# Altium schematic symbol library Switch.SchLib: 71 symbols
Pins are listed as number, name and electrical type; pins without a type are passive.

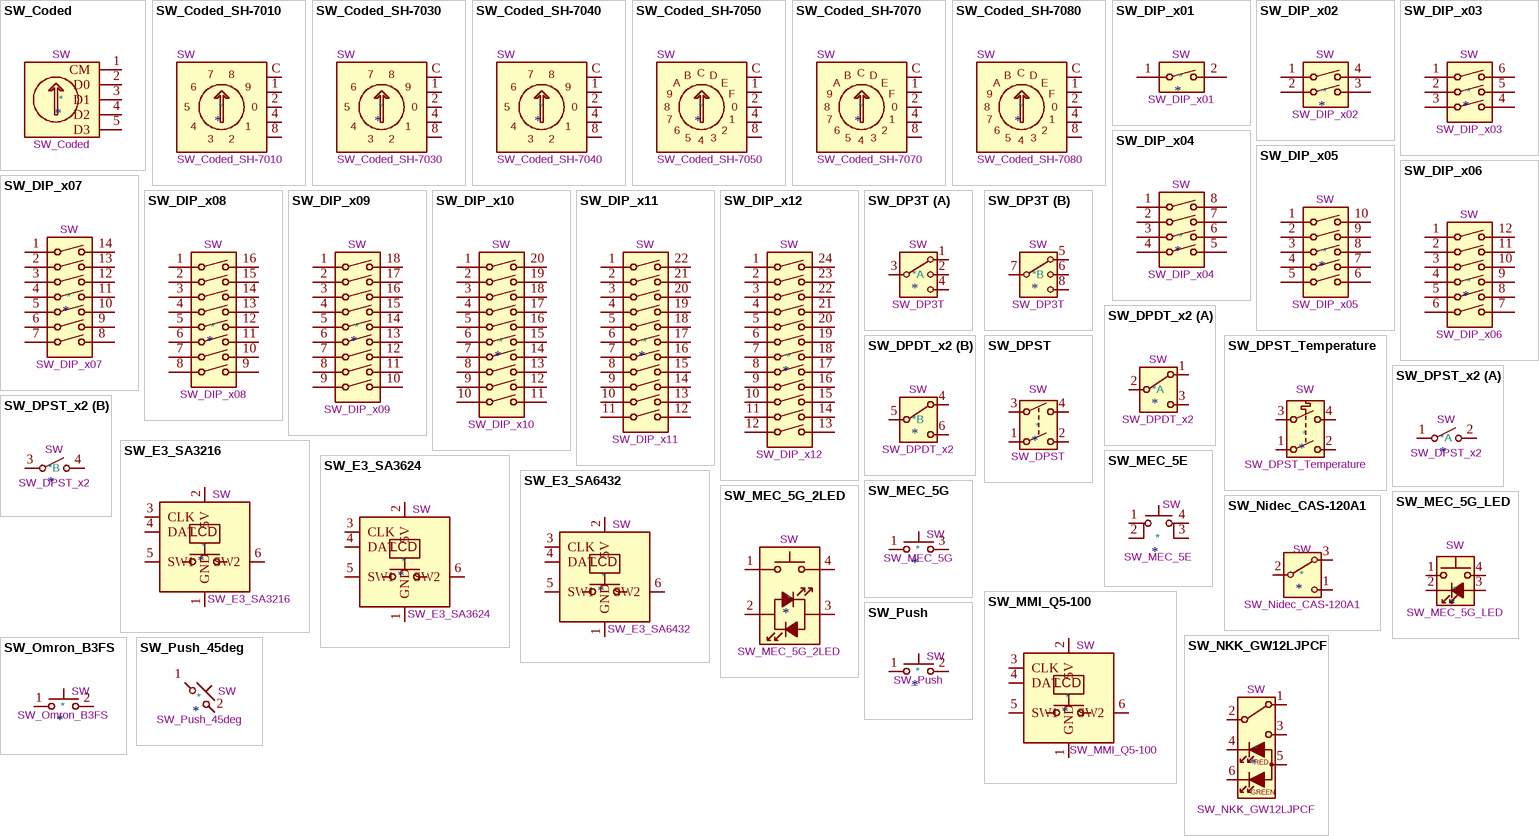
[diagram p0: symbols SW_Coded to SW_Push_45deg]

## SW_Coded
designator *  value SW_Coded  Reference: SW
ki_keywords: rotary hex; ki_description: Rotary switch, 4-bit encoding; Datasheet: ~
pins: 1 CM, 2 D0, 3 D1, 4 D2, 5 D3

## SW_Coded_SH-7010
designator *  value SW_Coded_SH-7010  Reference: SW
ki_keywords: rotary bcd Real; ki_description: Rotary switch, 4-bit encoding, 10 positions, Real code; ki_fp_filters: Nidec*Copal*SH*7010*; Datasheet: https://www.nidec-copal-electronics.com/e/catalog/switch/sh-7000.pdf
pins: 1, 2, 4, 8, C
text: 7; 6; 9; 5; 0; 3

## SW_Coded_SH-7030
designator *  value SW_Coded_SH-7030  Reference: SW
ki_keywords: rotary bcd Complementary; ki_description: Rotary switch, 4-bit encoding, 10 positions, Complementary code; ki_fp_filters: Nidec*Copal*SH*7010*; Datasheet: https://www.nidec-copal-electronics.com/e/catalog/switch/sh-7000.pdf
pins: 1, 2, 4, 8, C
text: 7; 6; 9; 5; 0; 3

## SW_Coded_SH-7040
designator *  value SW_Coded_SH-7040  Reference: SW
ki_keywords: rotary bcd Gray; ki_description: Rotary switch, 4-bit encoding, 10 positions, Gray code; ki_fp_filters: Nidec*Copal*SH*7040*; Footprint: Button_Switch_SMD:Nidec_Copal_SH-7040B; Datasheet: https://www.nidec-copal-electronics.com/e/catalog/switch/sh-7000.pdf
pins: 1, 2, 4, 8, C
text: 7; 6; 9; 5; 0; 3

## SW_Coded_SH-7050
designator *  value SW_Coded_SH-7050  Reference: SW
ki_keywords: rotary hex Real; ki_description: Rotary switch, 4-bit encoding, 16 positions, Real code; ki_fp_filters: Nidec*Copal*SH*7010*; Datasheet: https://www.nidec-copal-electronics.com/e/catalog/switch/sh-7000.pdf
pins: 1, 2, 4, 8, C
text: B; D; A; E; 9; F; 0; 7; 6; 5; 3

## SW_Coded_SH-7070
designator *  value SW_Coded_SH-7070  Reference: SW
ki_keywords: rotary hex Complementary; ki_description: Rotary switch, 4-bit encoding, 16 positions, Complementary code; ki_fp_filters: Nidec*Copal*SH*7010*; Datasheet: https://www.nidec-copal-electronics.com/e/catalog/switch/sh-7000.pdf
pins: 1, 2, 4, 8, C
text: B; D; A; E; 9; F; 0; 7; 6; 5; 3

## SW_Coded_SH-7080
designator *  value SW_Coded_SH-7080  Reference: SW
ki_keywords: rotary hex Gray; ki_description: Rotary switch, 4-bit encoding, 16 positions, Gray code; ki_fp_filters: Nidec*Copal*SH*7040*; Footprint: Button_Switch_SMD:Nidec_Copal_SH-7040B; Datasheet: https://www.nidec-copal-electronics.com/e/catalog/switch/sh-7000.pdf
pins: 1, 2, 4, 8, C
text: B; D; A; E; 9; F; 0; 7; 6; 5; 3

## SW_DIP_x01
designator *  value SW_DIP_x01  Reference: SW
ki_keywords: dip switch; ki_description: 1x DIP Switch, Single Pole Single Throw (SPST) switch, small symbol; ki_fp_filters: SW?DIP?x1*; Datasheet: ~
pins: 1, 2

## SW_DIP_x02
designator *  value SW_DIP_x02  Reference: SW
ki_keywords: dip switch; ki_description: 2x DIP Switch, Single Pole Single Throw (SPST) switch, small symbol; ki_fp_filters: SW?DIP?x2*; Datasheet: ~
pins: 1, 2, 3, 4

## SW_DIP_x03
designator *  value SW_DIP_x03  Reference: SW
ki_keywords: dip switch; ki_description: 3x DIP Switch, Single Pole Single Throw (SPST) switch, small symbol; ki_fp_filters: SW?DIP?x3*; Datasheet: ~
pins: 1, 2, 3, 4, 5, 6

## SW_DIP_x04
designator *  value SW_DIP_x04  Reference: SW
ki_keywords: dip switch; ki_description: 4x DIP Switch, Single Pole Single Throw (SPST) switch, small symbol; ki_fp_filters: SW?DIP?x4*; Datasheet: ~
pins: 1, 2, 3, 4, 5, 6, 7, 8

## SW_DIP_x05
designator *  value SW_DIP_x05  Reference: SW
ki_keywords: dip switch; ki_description: 5x DIP Switch, Single Pole Single Throw (SPST) switch, small symbol; ki_fp_filters: SW?DIP?x5*; Datasheet: ~
pins: 1, 2, 3, 4, 5, 6, 7, 8, 9, 10

## SW_DIP_x06
designator *  value SW_DIP_x06  Reference: SW
ki_keywords: dip switch; ki_description: 6x DIP Switch, Single Pole Single Throw (SPST) switch, small symbol; ki_fp_filters: SW?DIP?x6*; Datasheet: ~
pins: 1, 2, 3, 4, 5, 6, 7, 8, 9, 10, 11, 12

## SW_DIP_x07
designator *  value SW_DIP_x07  Reference: SW
ki_keywords: dip switch; ki_description: 7x DIP Switch, Single Pole Single Throw (SPST) switch, small symbol; ki_fp_filters: SW?DIP?x7*; Datasheet: ~
pins: 1, 2, 3, 4, 5, 6, 7, 8, 9, 10, 11, 12, 13, 14

## SW_DIP_x08
designator *  value SW_DIP_x08  Reference: SW
ki_keywords: dip switch; ki_description: 8x DIP Switch, Single Pole Single Throw (SPST) switch, small symbol; ki_fp_filters: SW?DIP?x8*; Datasheet: ~
pins: 1, 2, 3, 4, 5, 6, 7, 8, 9, 10, 11, 12, 13, 14, 15, 16

## SW_DIP_x09
designator *  value SW_DIP_x09  Reference: SW
ki_keywords: dip switch; ki_description: 9x DIP Switch, Single Pole Single Throw (SPST) switch, small symbol; ki_fp_filters: SW?DIP?x9*; Datasheet: ~
pins: 1, 2, 3, 4, 5, 6, 7, 8, 9, 10, 11, 12, 13, 14, 15, 16, 17, 18

## SW_DIP_x10
designator *  value SW_DIP_x10  Reference: SW
ki_keywords: dip switch; ki_description: 10x DIP Switch, Single Pole Single Throw (SPST) switch, small symbol; ki_fp_filters: SW?DIP?x10*; Datasheet: ~
pins: 1, 2, 3, 4, 5, 6, 7, 8, 9, 10, 11, 12, 13, 14, 15, 16, 17, 18, 19, 20

## SW_DIP_x11
designator *  value SW_DIP_x11  Reference: SW
ki_keywords: dip switch; ki_description: 11x DIP Switch, Single Pole Single Throw (SPST) switch, small symbol; ki_fp_filters: SW?DIP?x11*; Datasheet: ~
pins: 1, 2, 3, 4, 5, 6, 7, 8, 9, 10, 11, 12, 13, 14, 15, 16, 17, 18, 19, 20, 21, 22

## SW_DIP_x12
designator *  value SW_DIP_x12  Reference: SW
ki_keywords: dip switch; ki_description: 12x DIP Switch, Single Pole Single Throw (SPST) switch, small symbol; ki_fp_filters: SW?DIP?x12*; Datasheet: ~
pins: 1, 2, 3, 4, 5, 6, 7, 8, 9, 10, 11, 12, 13, 14, 15, 16, 17, 18, 19, 20, 21, 22, 23, 24

## SW_DP3T
designator *  value SW_DP3T  Reference: SW
ki_keywords: switch dp3t ON-ON-ON; ki_description: Switch, three position, dual pole triple throw, 3 position switch, SP3T; ki_fp_filters: SW* DP3T*; Datasheet: ~
part A pins: 1, 2, 3, 4
part B pins: 5, 6, 7, 8

## SW_DPDT_x2
designator *  value SW_DPDT_x2  Reference: SW
ki_keywords: switch dual-pole double-throw DPDT spdt ON-ON; ki_description: Switch, dual pole double throw, separate symbols; ki_fp_filters: SW*DPDT*; Datasheet: ~
part A pins: 1 A, 2 B, 3 C
part B pins: 4 A, 5 B, 6 C

## SW_DPST
designator *  value SW_DPST  Reference: SW
ki_keywords: switch dual double-pole single-throw OFF-ON; ki_description: Double Pole Single Throw (DPST) Switch; Datasheet: ~
pins: 1, 2, 3, 4

## SW_DPST_Temperature
designator *  value SW_DPST_Temperature  Reference: SW
ki_keywords: temperature switch dual double-pole single-throw OFF-ON; ki_description: Double Pole Single Throw (DPST) Switch, temperature dependent; Datasheet: ~
pins: 1, 2, 3, 4

## SW_DPST_x2
designator *  value SW_DPST_x2  Reference: SW
ki_keywords: switch lever; ki_description: Single Pole Single Throw (SPST) switch, separate symbol; Datasheet: ~
part A pins: 1 A, 2 B
part B pins: 3 A, 4 B

## SW_E3_SA3216
designator *  value SW_E3_SA3216  Reference: SW
ki_keywords: switch normally-open pushbutton push-button LCD; ki_description: Push button switch with LCD screen; ki_fp_filters: SW?PUSH?LCD?E3?SAxxxx*; Datasheet: http://www.e3-keys.com/files/SA%20Technical%20Datasheet%20v2.0.pdf
pins: 1 GND, 2 5V, 3 CLK, 4 DAT, 5 SW1, 6 SW2
text: LCD

## SW_E3_SA3624
designator *  value SW_E3_SA3624  Reference: SW
ki_keywords: switch normally-open pushbutton push-button LCD; ki_description: Push button switch with LCD screen; ki_fp_filters: SW?PUSH?LCD?E3?SAxxxx*; Datasheet: http://www.e3-keys.com/files/SA%20Technical%20Datasheet%20v2.0.pdf
pins: 1 GND, 2 5V, 3 CLK, 4 DAT, 5 SW1, 6 SW2
text: LCD

## SW_E3_SA6432
designator *  value SW_E3_SA6432  Reference: SW
ki_keywords: switch normally-open pushbutton push-button LCD; ki_description: Push button switch with LCD screen; ki_fp_filters: SW?PUSH?LCD?E3?SAxxxx*; Datasheet: http://www.e3-keys.com/files/SA%20Technical%20Datasheet%20v2.0.pdf
pins: 1 GND, 2 5V, 3 CLK, 4 DAT, 5 SW1, 6 SW2
text: LCD

## SW_MEC_5E
designator *  value SW_MEC_5E  Reference: SW
ki_keywords: switch normally-open pushbutton push-button; ki_description: MEC 5E single pole normally-open tactile switch; ki_fp_filters: SW*MEC*5G*; Datasheet: http://www.apem.com/int/index.php?controller=attachment&id_attachment=1371
pins: 1, 2, 3 K, 4 A

## SW_MEC_5G
designator *  value SW_MEC_5G  Reference: SW
ki_keywords: switch normally-open pushbutton push-button; ki_description: MEC 5G single pole normally-open tactile switch; ki_fp_filters: SW*MEC*5G*; Datasheet: http://www.apem.com/int/index.php?controller=attachment&id_attachment=488
pins: 1 A, 2 A hidden, 3 B, 4 B hidden

## SW_MEC_5G_2LED
designator *  value SW_MEC_5G_2LED  Reference: SW
ki_keywords: switch normally-open pushbutton push-button LED; ki_description: MEC 5G single pole normally-open illuminated tactile switch with two LEDs; ki_fp_filters: SW*MEC*5G*; Datasheet: http://www.apem.com/int/index.php?controller=attachment&id_attachment=488
pins: 1, 2, 3 K, 4 A

## SW_MEC_5G_LED
designator *  value SW_MEC_5G_LED  Reference: SW
ki_keywords: switch normally-open pushbutton push-button LED; ki_description: MEC 5G single pole normally-open illuminated tactile switch; ki_fp_filters: SW*MEC*5G*; Datasheet: http://www.apem.com/int/index.php?controller=attachment&id_attachment=488
pins: 1, 2, 3 K, 4 A

## SW_MMI_Q5-100
designator *  value SW_MMI_Q5-100  Reference: SW
ki_keywords: switch normally-open pushbutton push-button LCD; ki_description: Push button switch with LCD screen; ki_fp_filters: SW?PUSH?LCD?E3?SAxxxx*; Datasheet: http://latest.ledswitches.co.uk/media/pdf/Q5-PCB-V1-withQ5data.pdf
pins: 1 GND, 2 5V, 3 CLK, 4 DAT, 5 SW1, 6 SW2
text: LCD

## SW_Nidec_CAS-120A1
designator *  value SW_Nidec_CAS-120A1  Reference: SW
ki_keywords: switch single-pole double-throw spdt ON-ON; ki_description: Switch, single pole double throw; ki_fp_filters: *Nidec?Copal?CAS?120A*; Footprint: Button_Switch_SMD:Nidec_Copal_CAS-120A; Datasheet: https://www.nidec-components.com/e/catalog/switch/cas.pdf
pins: 1 C, 2 B, 3 A

## SW_NKK_GW12LJPCF
designator *  value SW_NKK_GW12LJPCF  Reference: SW
ki_keywords: switch single-pole double-throw spdt ON-ON illuminated red green; ki_description: Switch, single pole double throw, illuminated paddle, red and green LEDs; ki_fp_filters: SW*NKK*GW12LJP*; Footprint: Button_Switch_THT:SW_NKK_GW12LJP; Datasheet: http://www.nkkswitches.com/pdf/gwillum.pdf
pins: 1 A, 2 B, 3 C, 4 KR, 5 A, 6 KG
text: RED; GREEN

## SW_Omron_B3FS
designator *  value SW_Omron_B3FS  Reference: SW
ki_keywords: switch normally-open pushbutton push-button; ki_description: Omron B3FS 6x6mm single pole normally-open tactile switch; ki_fp_filters: SW*Omron*B3FS*; Datasheet: https://omronfs.omron.com/en_US/ecb/products/pdf/en-b3fs.pdf
pins: 1, 2

## SW_Push
designator *  value SW_Push  Reference: SW
ki_keywords: switch normally-open pushbutton push-button; ki_description: Push button switch, generic, two pins; Datasheet: ~
pins: 1, 2

## SW_Push_45deg
designator *  value SW_Push_45deg  Reference: SW
ki_keywords: switch normally-open pushbutton push-button; ki_description: Push button switch, normally open, two pins, 45° tilted; Datasheet: ~
pins: 1, 2

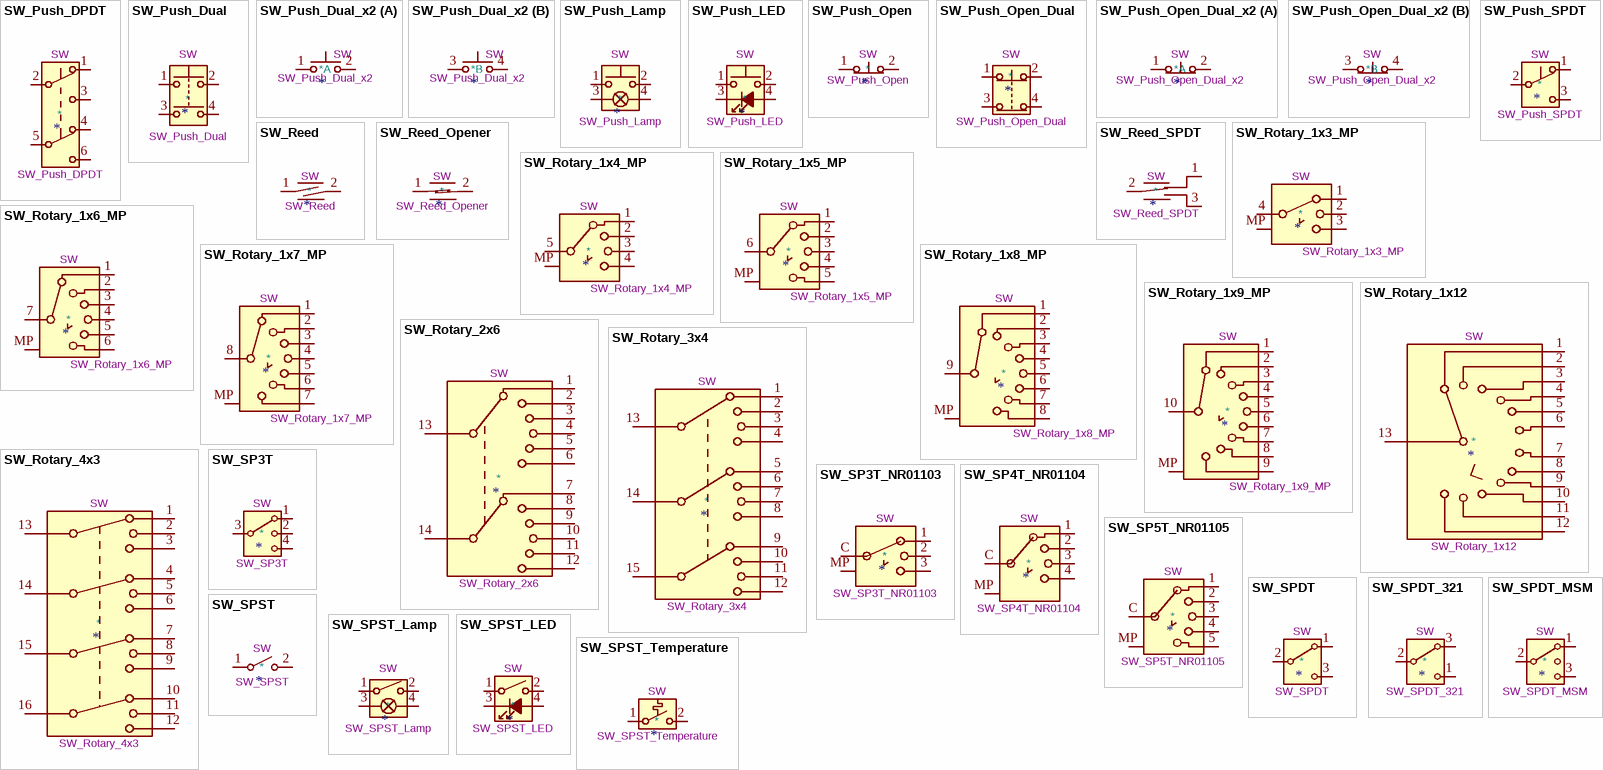
[diagram p1: symbols SW_Push_DPDT to SW_SPST_Temperature]

## SW_Push_DPDT
designator *  value SW_Push_DPDT  Reference: SW
ki_keywords: switch dual-pole double-throw spdt ON-ON; ki_description: Momentary Switch, dual pole double throw; Datasheet: ~
pins: 1 A, 2 B, 3 C, 4 A, 5 B, 6 C

## SW_Push_Dual
designator *  value SW_Push_Dual  Reference: SW
ki_keywords: switch normally-open pushbutton push-button; ki_description: Push button switch, generic, symbol, four pins; Datasheet: ~
pins: 1, 2, 3, 4

## SW_Push_Dual_x2
designator *  value SW_Push_Dual_x2  Reference: SW
ki_keywords: switch normally-open pushbutton push-button; ki_description: Push button switch, generic, separate symbols, four pins; Datasheet: ~
part A pins: 1 C, 2 D
part B pins: 3 C, 4 D

## SW_Push_Lamp
designator *  value SW_Push_Lamp  Reference: SW
ki_keywords: switch normally-open pushbutton push-button Lamp; ki_description: Push button switch with Signal Lamp, generic; Datasheet: ~
pins: 1, 2, 3 L, 4 L

## SW_Push_LED
designator *  value SW_Push_LED  Reference: SW
ki_keywords: switch normally-open pushbutton push-button LED; ki_description: Push button switch with LED, generic; Datasheet: ~
pins: 1, 2, 3 K, 4 A

## SW_Push_Open
designator *  value SW_Push_Open  Reference: SW
ki_keywords: switch normally-closed pushbutton push-button; ki_description: Push button switch, push-to-open, generic, two pins; Datasheet: ~
pins: 1 A, 2 B

## SW_Push_Open_Dual
designator *  value SW_Push_Open_Dual  Reference: SW
ki_keywords: switch normally-closed pushbutton push-button; ki_description: Push button switch, normally closed, generic, four pins; Datasheet: ~
pins: 1, 2, 3, 4

## SW_Push_Open_Dual_x2
designator *  value SW_Push_Open_Dual_x2  Reference: SW
ki_keywords: switch normally-closed pushbutton push-button; ki_description: Push button switch, push-to-open, generic, two pins; Datasheet: ~
part A pins: 1, 2
part B pins: 3 1, 4 2

## SW_Push_SPDT
designator *  value SW_Push_SPDT  Reference: SW
ki_keywords: switch single-pole double-throw spdt ON-ON; ki_description: Momentary Switch, single pole double throw; Datasheet: ~
pins: 1 A, 2 B, 3 C

## SW_Reed
designator *  value SW_Reed  Reference: SW
ki_keywords: reed magnetic switch; ki_description: reed switch; Datasheet: ~
pins: 1, 2

## SW_Reed_Opener
designator *  value SW_Reed_Opener  Reference: SW
ki_keywords: reed magnetic switch; ki_description: reed switch, default-closed; Datasheet: ~
pins: 1, 2

## SW_Reed_SPDT
designator *  value SW_Reed_SPDT  Reference: SW
ki_keywords: reed magnetic switch SPDT; ki_description: SPDT reed switch; Datasheet: ~
pins: 1, 2, 3

## SW_Rotary_1x3_MP
designator *  value SW_Rotary_1x3_MP  Reference: SW
ki_keywords: Rotary switch 1x3 SP3T; ki_description: Rotary switch 1x3, SP3T with mount point; Datasheet: ~
pins: 1, 2, 3, 4, MP

## SW_Rotary_1x4_MP
designator *  value SW_Rotary_1x4_MP  Reference: SW
ki_keywords: Rotary switch 1x4 SP4T; ki_description: Rotary switch 1x4, SP4T with mount point; Datasheet: ~
pins: 1, 2, 3, 4, 5, MP

## SW_Rotary_1x5_MP
designator *  value SW_Rotary_1x5_MP  Reference: SW
ki_keywords: Rotary switch 1x5 SP5T; ki_description: Rotary switch 1x5, SP5T with mount point; Datasheet: ~
pins: 1, 2, 3, 4, 5, 6, MP

## SW_Rotary_1x6_MP
designator *  value SW_Rotary_1x6_MP  Reference: SW
ki_keywords: Rotary switch 1x6 SP6T; ki_description: Rotary switch 1x6, SP6T with mount point; Datasheet: ~
pins: 1, 2, 3, 4, 5, 6, 7, MP

## SW_Rotary_1x7_MP
designator *  value SW_Rotary_1x7_MP  Reference: SW
ki_keywords: Rotary switch 1x7 SP7T; ki_description: Rotary switch 1x7, SP7T with mount point; Datasheet: ~
pins: 1, 2, 3, 4, 5, 6, 7, 8, MP

## SW_Rotary_1x8_MP
designator *  value SW_Rotary_1x8_MP  Reference: SW
ki_keywords: Rotary switch 1x8 SP8T; ki_description: Rotary switch 1x8, SP8T with mount point; Datasheet: ~
pins: 1, 2, 3, 4, 5, 6, 7, 8, 9, MP

## SW_Rotary_1x9_MP
designator *  value SW_Rotary_1x9_MP  Reference: SW
ki_keywords: Rotary switch 1x8 SP8T; ki_description: Rotary switch 1x8, SP8T with mount point; Datasheet: ~
pins: 1, 2, 3, 4, 5, 6, 7, 8, 9, 10, MP

## SW_Rotary_1x12
designator *  value SW_Rotary_1x12  Reference: SW
ki_keywords: rotary switch 1x12; ki_description: rotary switch with 12 positions; Datasheet: http://cdn-reichelt.de/documents/datenblatt/C200/DS-Serie%23LOR.pdf
pins: 1, 2, 3, 4, 5, 6, 7, 8, 9, 10, 11, 12, 13

## SW_Rotary_2x6
designator *  value SW_Rotary_2x6  Reference: SW
ki_keywords: rotary switch 2x6; ki_description: 2 rotary switch with 6 positions; Datasheet: http://cdn-reichelt.de/documents/datenblatt/C200/DS-Serie%23LOR.pdf
pins: 1, 2, 3, 4, 5, 6, 7, 8, 9, 10, 11, 12, 13, 14

## SW_Rotary_3x4
designator *  value SW_Rotary_3x4  Reference: SW
ki_keywords: rotary switch 3x4; ki_description: 3 rotary switches with 4 positions; Datasheet: http://cdn-reichelt.de/documents/datenblatt/C200/DS-Serie%23LOR.pdf
pins: 1, 2, 3, 4, 5, 6, 7, 8, 9, 10, 11, 12, 13, 14, 15

## SW_Rotary_4x3
designator *  value SW_Rotary_4x3  Reference: SW
ki_keywords: rotary switch 4x3; ki_description: 4 rotary switches with 3 positions; Datasheet: http://cdn-reichelt.de/documents/datenblatt/C200/DS-Serie%23LOR.pdf
pins: 1, 2, 3, 4, 5, 6, 7, 8, 9, 10, 11, 12, 13, 14, 15, 16

## SW_SP3T
designator *  value SW_SP3T  Reference: SW
ki_keywords: switch sp3t ON-ON-ON; ki_description: Switch, three position, single pole triple throw, 3 position switch, SP3T; ki_fp_filters: SW* SP3T*; Datasheet: ~
pins: 1, 2, 3, 4

## SW_SP3T_NR01103
designator *  value SW_SP3T_NR01103  Reference: SW
ki_keywords: NR01 SP3T Switch; ki_description: NKK Switches NR01 Series rotary SP3T switch; ki_fp_filters: SW?NKK?NR01*; Footprint: Button_Switch_THT:SW_NKK_NR01; Datasheet: https://www.nkkswitches.com/pdf/NR01%20Rotaries.pdf
pins: 1, 2, 3, 4 hidden, 5 hidden, C Common, MP

## SW_SP4T_NR01104
designator *  value SW_SP4T_NR01104  Reference: SW
ki_keywords: NR01 SP4T Switch; ki_description: NKK Switches NR01 Series rotary SP4T switch; ki_fp_filters: SW?NKK?NR01*; Footprint: Button_Switch_THT:SW_NKK_NR01; Datasheet: https://www.nkkswitches.com/pdf/NR01%20Rotaries.pdf
pins: 1, 2, 3, 4, 5 hidden, C Common, MP

## SW_SP5T_NR01105
designator *  value SW_SP5T_NR01105  Reference: SW
ki_keywords: NR01 SP5T Switch; ki_description: NKK Switches NR01 Series rotary SP5T switch; ki_fp_filters: SW?NKK?NR01*; Footprint: Button_Switch_THT:SW_NKK_NR01; Datasheet: https://www.nkkswitches.com/pdf/NR01%20Rotaries.pdf
pins: 1, 2, 3, 4, 5, C Common, MP

## SW_SPDT
designator *  value SW_SPDT  Reference: SW
ki_keywords: switch single-pole double-throw spdt ON-ON; ki_description: Switch, single pole double throw; Datasheet: ~
pins: 1 A, 2 B, 3 C

## SW_SPDT_321
designator *  value SW_SPDT_321  Reference: SW
ki_keywords: switch single-pole double-throw spdt ON-ON; ki_description: Switch, single pole double throw; Datasheet: ~
pins: 1 C, 2 B, 3 A

## SW_SPDT_MSM
designator *  value SW_SPDT_MSM  Reference: SW
ki_keywords: switch spdt single-pole double-throw ON-OFF-ON; ki_description: Switch, single pole double throw, center OFF position; Datasheet: ~
pins: 1, 2 3, 3 4

## SW_SPST
designator *  value SW_SPST  Reference: SW
ki_keywords: switch lever; ki_description: Single Pole Single Throw (SPST) switch; Datasheet: ~
pins: 1 A, 2 B

## SW_SPST_Lamp
designator *  value SW_SPST_Lamp  Reference: SW
ki_keywords: switch SPST LED OFF-ON lamp; ki_description: Single Pole Single Throw (SPST) switch with signal lamp, generic; Datasheet: ~
pins: 1, 2, 3 L, 4 L

## SW_SPST_LED
designator *  value SW_SPST_LED  Reference: SW
ki_keywords: switch SPST LED OFF-ON; ki_description: Single Pole Single Throw (SPST) switch with LED, generic; Datasheet: ~
pins: 1, 2, 3 K, 4 A

## SW_SPST_Temperature
designator *  value SW_SPST_Temperature  Reference: SW
ki_keywords: temperature switch; ki_description: Single Pole Single Throw (SPST) switch, temperature dependent; Datasheet: ~
pins: 1 A, 2 B